# Altium footprint library WePcbLib.PcbLib: 177 footprints (part 8 of 12)
Each footprint in its own frame and in the unit in brackets; x right, y up, seen from the top. Pads: shape width x height; smd on the part's side, far side on the other; paste and mask are expansions set on the pad; w line width, h text height; cw(c..) or ccw(c..) is an arc to the next point about the centre after c.
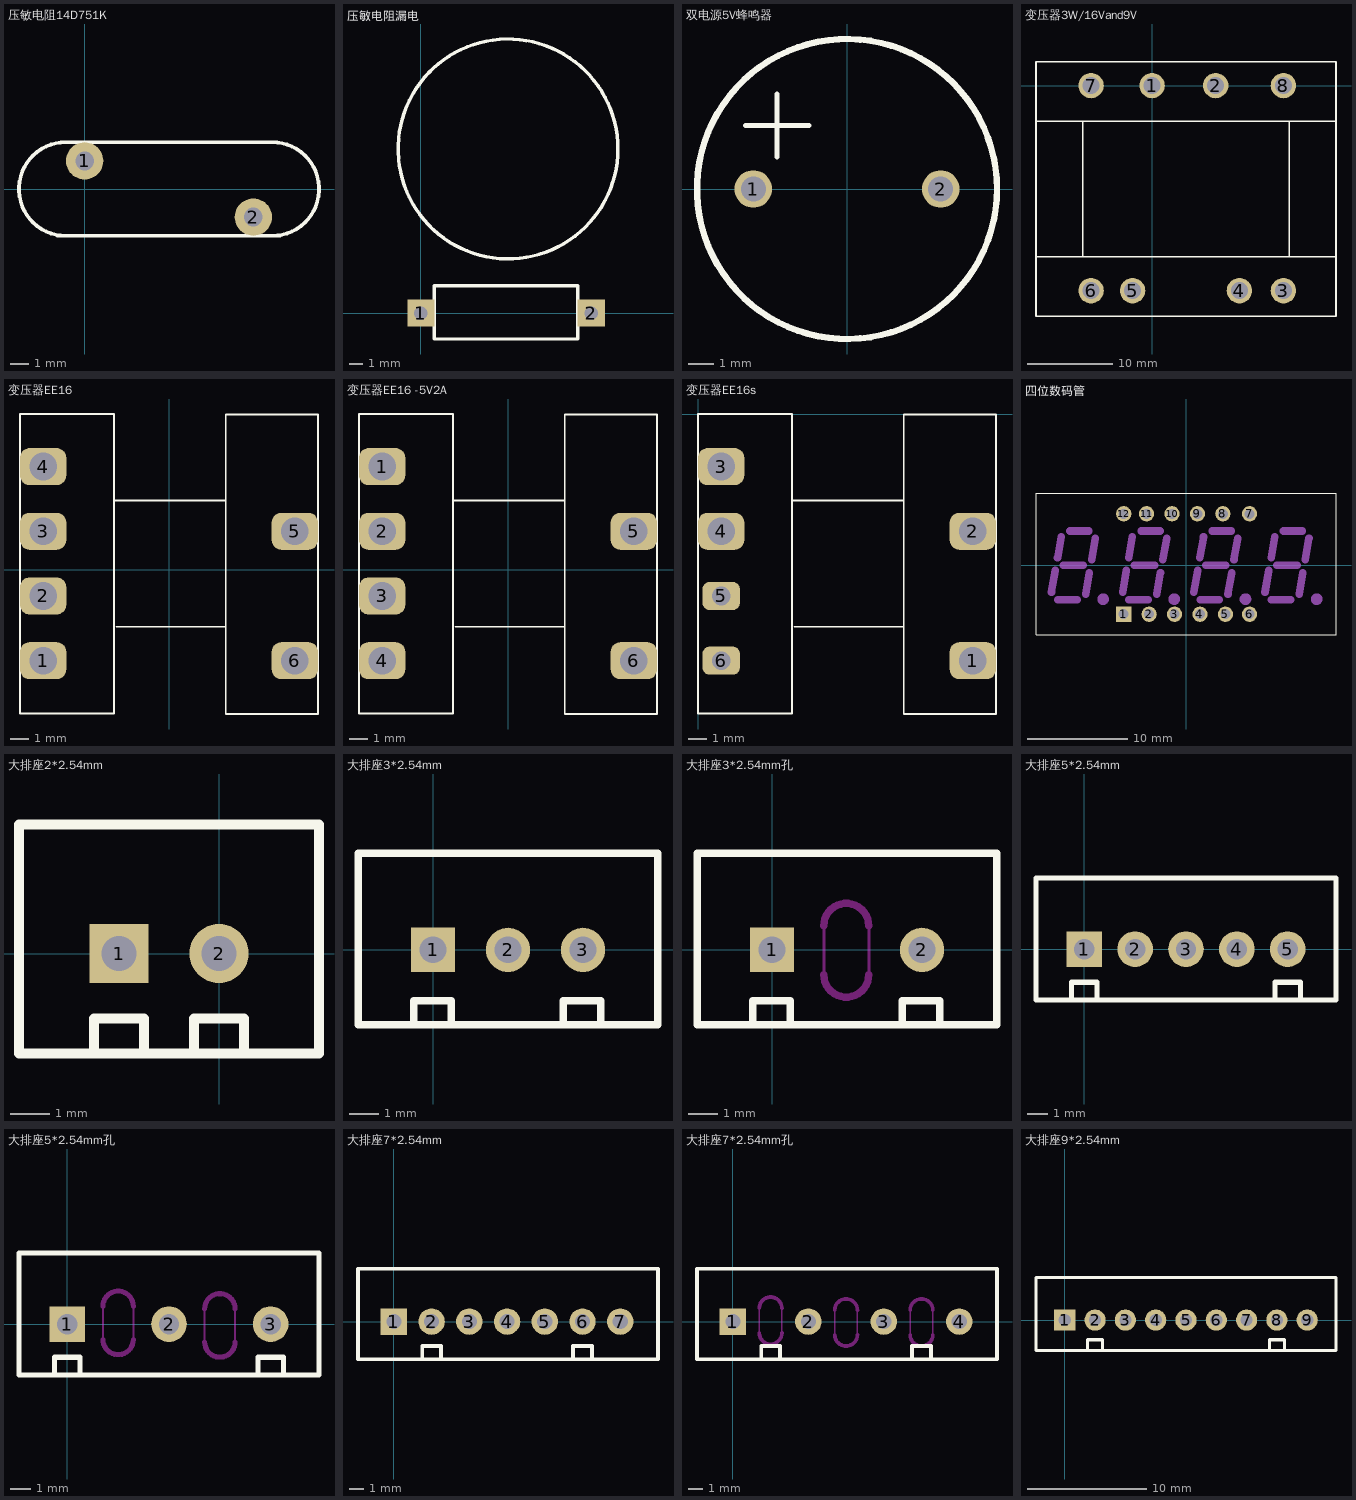
[diagram p7: the footprints below, top view; thin cyan lines are the x and y axes]

## 压敏电阻14D751K [mm]
pads (2):
  round 2 hole 1: 1(0,1.5) 2(9,-1.5)
Top Overlay:
  lines w0.2: -1.448,-2.489 10.414,-2.489 ; -1.27,2.489 10.236,2.489 ; -1,-2.5 cw(c-1,0) -1,2.5 ; 10,-2.5 ccw(c10,0) 10,2.5

## 压敏电阻漏电 [mm]
pads (2):
  rect 2x2 hole 1: 1(0.025,0) 2(12.548,0)
Top Overlay:
  circle w0.254: c6.426,12.065 r8.08
  lines w0.254: 1.016,-1.905 11.557,-1.905 11.557,2.007 1.016,2.007 1.016,-1.905

## 双电源5V蜂鸣器 [mm]
pads (2):
  round 1.5 hole 1: 1(-3.75,0) 2(3.75,0)
Top Overlay:
  circle w0.254: c0,0 r6
  lines w0.2: -4.064,2.54 -1.524,2.54 ; -2.794,1.27 -2.794,3.81

## 变压器3W/16Vand9V [mm]
pads (8):
  round 3 hole 2: 1(0,0) 2(7.5,0) 3(15.5,-24.2) 4(10.3,-24.2) 5(-2.3,-24.2) 6(-7.2,-24.2) 7(-7.2,0) 8(15.5,0)
Top Overlay:
  lines w0.2: -13.7,-20.2 21.7,-20.2 ; -13.7,-4.2 21.7,-4.2 ; -8.2,-20.201 -8.2,-4.326 ; 16.2,-20.201 16.2,-4.326 ; -13.7,-27.2 21.7,-27.2 21.7,2.8 -13.7,2.8 -13.7,-27.2

## 变压器EE16 [mm]
pads (6):
  rrect50% 2.5x2 hole 1.5: 1(-6.807,-4.912) 2(-6.807,-1.412) 3(-6.807,2.088) 4(-6.807,5.588) 5(6.807,2.088) 6(6.807,-4.912)
Top Overlay:
  lines w0.1: -2.972,3.759 3.073,3.759 ; -2.845,-3.073 3.073,-3.073 ; -8.052,-7.772 -8.052,8.433 -2.972,8.433 -2.972,-7.772 -8.052,-7.772 ; 3.073,-7.798 3.073,8.382 3.099,8.407 8.052,8.407 8.052,-7.798 3.073,-7.798

## 变压器EE16 -5V2A [mm]
pads (6):
  rrect50% 2.5x2 hole 1.5: 1(-6.807,5.588) 2(-6.807,2.088) 3(-6.807,-1.412) 4(-6.807,-4.912) 5(6.807,2.088) 6(6.807,-4.912)
Top Overlay:
  lines w0.1: -2.972,3.759 3.073,3.759 ; -2.845,-3.073 3.073,-3.073 ; -8.052,-7.772 -8.052,8.433 -2.972,8.433 -2.972,-7.772 -8.052,-7.772 ; 3.073,-7.798 3.073,8.382 3.099,8.407 8.052,8.407 8.052,-7.798 3.073,-7.798

## 变压器EE16s [mil]
pads (6):
  rrect50% 98.43x78.74 hole 59.06: 1(585,-525.39) 2(585,-249.8) 3(49,-112) 4(49,-249.8)
  rrect50% 80x60 hole 40: 5(49,-387.59) 6(49,-525.39)
Top Overlay:
  lines w3.94: 200,-184 438,-184 ; 205,-453 438,-453 ; 0,-638 200,-638 200,0 0,0 0,-638 ; 438,-639 634,-639 634,-1 439,-1 438,-2 438,-639

## 四位数码管 [mil]
pads (12):
  rect 60x60 hole 39.37: 1(-245.94,-192.32)
  round 60 hole 39.37: 2(-145.94,-192.32) 3(-45.94,-192.32) 4(54.06,-192.32) 5(154.06,-192.32) 6(249.06,-192.32) 7(249.06,202.68) 8(144.06,202.68) 9(44.06,202.68) 10(-55.94,202.68) 11(-155.94,202.68) 12(-245.94,202.68)
Top Overlay:
  lines w3.94: -590.94,-272.32 -590.94,282.68 589.06,282.68 589.06,-272.32 -590.94,-272.32
Mechanical 1:
  circle w33.86: c512.93,-133.07 r5.91
  circle w33.86: c232.93,-133.07 r5.91
  circle w33.86: c-47.07,-133.07 r5.91
  circle w33.86: c-327.07,-133.07 r5.91
  lines w30: -530.22,-105.91 -515.26,-20.47 ; -506.2,29.92 -492.03,111.81 ; -505.42,-135.04 -429.83,-135.04 ; -483.53,0 -404.47,0 ; -457.39,135.04 -382.98,135.04 ; -395.97,-113.78 -381.4,-29.92 ; -372.35,22.05 -357.39,105.91 ; -250.22,-105.91 -235.26,-20.47 ; -226.2,29.92 -212.03,111.81 ; -225.42,-135.04 -149.83,-135.04 ; -203.53,0 -124.47,0 ; -177.39,135.04 -102.98,135.04 ; -115.97,-113.78 -101.4,-29.92 ; -92.35,22.05 -77.39,105.91 ; 29.78,-105.91 44.74,-20.47 ; 53.8,29.92 67.97,111.81 ; 54.58,-135.04 130.17,-135.04 ; 76.47,0 155.53,0 ; 102.61,135.04 177.02,135.04 ; 164.03,-113.78 178.6,-29.92 ; 187.65,22.05 202.61,105.91 ; 309.78,-105.91 324.74,-20.47 ; 333.8,29.92 347.97,111.81 ; 334.58,-135.04 410.17,-135.04 ; 356.47,0 435.53,0 ; 382.61,135.04 457.02,135.04 ; 444.03,-113.78 458.6,-29.92 ; 467.65,22.05 482.61,105.91

## 大排座2*2.54mm [mm]
pads (2):
  rect 1.5x1.5 hole 0.9: 1(-2.54,0)
  round 1.5 hole 0.9: 2(0,0)
Top Overlay:
  lines w0.254: -5.08,3.277 -5.08,-2.54 2.54,-2.54 2.54,3.277 -5.055,3.277 ; -3.175,-2.413 -3.175,-1.905 -3.175,-1.651 -1.905,-1.651 -1.905,-2.413 ; -0.635,-2.413 -0.635,-1.905 -0.635,-1.651 0.635,-1.651 0.635,-2.413

## 大排座3*2.54mm [mm]
pads (3):
  rect 1.5x1.5 hole 0.9: 1(0,0)
  round 1.5 hole 0.9: 2(2.54,0) 3(5.08,0)
Top Overlay:
  lines w0.254: -0.66,-2.489 -0.66,-1.981 -0.66,-1.727 0.61,-1.727 0.61,-2.489 ; 4.42,-2.489 4.42,-1.981 4.42,-1.727 5.69,-1.727 5.69,-2.489 ; -2.54,-2.54 7.62,-2.54 7.62,3.277 -2.54,3.277 -2.54,-2.54

## 大排座3*2.54mm孔 [mm]
pads (2):
  rect 1.5x1.5 hole 0.9: 1(0,0)
  round 1.5 hole 0.9: 2(5.08,0)
Top Overlay:
  lines w0.254: -0.66,-2.489 -0.66,-1.981 -0.66,-1.727 0.61,-1.727 0.61,-2.489 ; 4.42,-2.489 4.42,-1.981 4.42,-1.727 5.69,-1.727 5.69,-2.489 ; -2.54,-2.54 -2.54,3.277 7.62,3.277 7.62,-2.54 -2.54,-2.54
Keep-Out Layer:
  lines w0.102: 1.753,-0.838 1.753,0.813 ; 3.277,-0.838 3.277,0.813
  lines w0.254: 1.753,-0.838 ccw(c2.515,-0.838) 3.277,-0.838 ; 1.753,0.813 cw(c2.515,0.813) 3.277,0.813

## 大排座5*2.54mm [mil]
pads (5):
  rect 70x70 hole 40: 1(0,0)
  round 70 hole 40: 2(100,0) 3(200,0) 4(300,0) 5(400,0)
Top Overlay:
  lines w10: -25,-95 -25,-75 -25,-65 25,-65 25,-95 ; 375,-100 375,-65 425,-65 425,-100 ; -95,-100 495,-100 495,140 -95,140 -95,-100

## 大排座5*2.54mm孔 [mil]
pads (3):
  rect 70x70 hole 40: 1(0,0)
  round 70 hole 40: 2(200,0) 3(400,0)
Top Overlay:
  lines w10: -25,-95 -25,-75 -25,-65 25,-65 25,-95 ; 375,-100 375,-65 425,-65 425,-100 ; -95,-100 -95,140 495,140 495,-100 -95,-100
Keep-Out Layer:
  lines w4: 70,-30 70,35 ; 130,-30 130,35 ; 270,-35 270,30 ; 330,-35 330,30
  lines w10: 70,-30 ccw(c100,-30) 130,-30 ; 70,35 cw(c100,35) 130,35 ; 270,-35 ccw(c300,-35) 330,-35 ; 270,30 cw(c300,30) 330,30

## 大排座7*2.54mm [mil]
pads (7):
  rect 70x70 hole 40: 1(0,0)
  round 70 hole 40: 2(100,0) 3(200,0) 4(300,0) 5(400,0) 6(500,0) 7(600,0)
Top Overlay:
  lines w10: 75,-95 75,-75 75,-65 125,-65 125,-95 ; 475,-100 475,-65 525,-65 525,-100 ; -95,-100 700,-100 700,140 -95,140 -95,-100

## 大排座7*2.54mm孔 [mil]
pads (4):
  rect 70x70 hole 40: 1(0,0)
  round 70 hole 40: 2(200,0) 3(400,0) 4(600,0)
Top Overlay:
  lines w10: 75,-95 75,-75 75,-65 125,-65 125,-95 ; 475,-100 475,-65 525,-65 525,-100 ; -95,-100 -95,140 700,140 700,-100 -95,-100
Keep-Out Layer:
  lines w4: 70,-30 70,35 ; 130,-30 130,35 ; 270,-35 270,30 ; 330,-35 330,30 ; 470,-35 470,30 ; 530,-35 530,30
  lines w10: 70,-30 ccw(c100,-30) 130,-30 ; 70,35 cw(c100,35) 130,35 ; 270,-35 ccw(c300,-35) 330,-35 ; 270,30 cw(c300,30) 330,30 ; 470,-35 ccw(c500,-35) 530,-35 ; 470,30 cw(c500,30) 530,30

## 大排座9*2.54mm [mil]
pads (9):
  rect 70x70 hole 40: 1(0,0)
  round 70 hole 40: 2(100,0) 3(200,0) 4(300,0) 5(400,0) 6(500,0) 7(600,0) 8(700,0) 9(800,0)
Top Overlay:
  lines w10: 75,-95 75,-75 75,-65 125,-65 125,-95 ; 675,-100 675,-65 725,-65 725,-100 ; -95,-100 895,-100 895,140 -95,140 -95,-100